# Altium integrated library Chip LED.IntLib: 106 symbols (part 1 of 2)
Pins are listed as number, name and electrical type; pins without a type are passive.

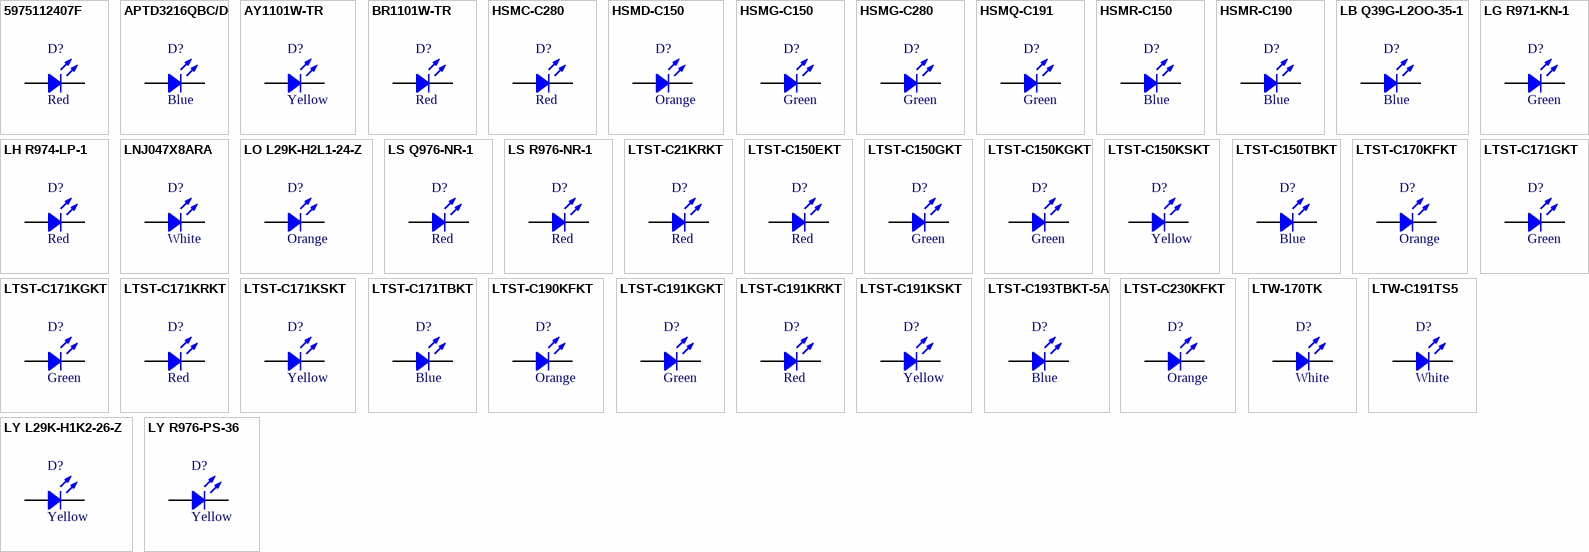
[diagram p0: symbols 5975112407F to LY R976-PS-36]

## 5975112407F
designator D?, comment Red
LED RED DIFFUSED 0603 SMD; Part Number: 5975112407F; Manufacturer: Dialight; Value: Green; Type: Surface Mount; Millicandela: 11.7mcd; Voltage Forward: 1.7V; Current (Test): 20mA; Viewing Angle: 152; PartId: 7057; Supplier 1: Digi-Key; Supplier Part Number 1: 350-2436-2-ND; ComponentLink1Description: Datasheet; ComponentLink1URL: http://www.dialight.com/Assets/Drawings/2D_Drawings_DrawingDetailedSpec/C16413.pdf; ComponentLink2Description: Digi-Key Listing; ComponentLink2URL: http://www.digikey.ca/product-detail/en/5975112407F/350-2436-2-ND/2432587; Price: 0.3092; Device Package: 0603 (1608 Metric); Colour: Red; Lens Transparency: Diffused
footprint LED 0603/1608 RED
pins: 1, 2

## APTD3216QBC/D
designator D?, comment Blue
LED BLUE CLEAR 1206 SMD; Part Number: APTD3216QBC/D; Manufacturer: Kingbright; Value: Green; Type: Surface Mount; Millicandela: 700mcd; Voltage Forward: 3.3V; Current (Test): 20mA; Viewing Angle: 35; PartId: 7110; Supplier 1: Digi-Key; Supplier Part Number 1: 754-1442-2-ND; ComponentLink1Description: Datasheet; ComponentLink1URL: http://www.kingbrightusa.com/images/catalog/SPEC/APTD3216QBC-D.pdf; ComponentLink2Description: Digi-Key Listing; ComponentLink2URL: http://www.digikey.ca/product-detail/en/APTD3216QBC%2FD/754-1442-2-ND/2163705; Price: 0.2248; Device Package: 1206 (3216 Metric); Colour: Blue; Lens Transparency: Clear
footprint LED 1206/3216 BLUE
pins: 1, 2

## AY1101W-TR
designator D?, comment Yellow
LED YELLOW CLEAR 1206 SMD; Part Number: AY1101W-TR; Manufacturer: Stanley Electric Co; Value: Green; Type: Surface Mount; Millicandela: 3.2mcd; Voltage Forward: 2.2V; Current (Test): 20mA; Viewing Angle: 140, 145; PartId: 7090; Supplier 1: Digi-Key; Supplier Part Number 1: 404-1044-2-ND; ComponentLink1Description: Datasheet; ComponentLink1URL: http://media.digikey.com/pdf/Data%20Sheets/Stanley%20Electric%20PDFs/1101W_Series.pdf; ComponentLink2Description: Digi-Key Listing; ComponentLink2URL: http://www.digikey.ca/product-detail/en/AY1101W-TR/404-1044-2-ND/428700; Price: 0.1538; Device Package: 1206 (3016 Metric); Colour: Yellow; Lens Transparency: Clear
footprint LED 1206/3216 YELLOW
pins: 1, 2

## BR1101W-TR
designator D?, comment Red
LED RED CLEAR 1206 SMD; Part Number: BR1101W-TR; Manufacturer: Stanley Electric Co; Value: Green; Type: Surface Mount; Millicandela: 12.8mcd; Voltage Forward: 1.7V; Current (Test): 20mA; Viewing Angle: 152, 141; PartId: 7089; Supplier 1: Digi-Key; Supplier Part Number 1: 404-1042-2-ND; ComponentLink1Description: Datasheet; ComponentLink1URL: http://media.digikey.com/pdf/Data%20Sheets/Stanley%20Electric%20PDFs/1101W_Series.pdf; ComponentLink2Description: Digi-Key Listing; ComponentLink2URL: http://www.digikey.ca/product-detail/en/BR1101W-TR/404-1042-2-ND/428693; Price: 0.1438; Device Package: 1206 (3016 Metric); Colour: Red; Lens Transparency: Clear
footprint LED 1206/3216 RED
pins: 1, 2

## HSMC-C280
designator D?, comment Red
LED RED DIFFUSED 0402 SMD; Part Number: HSMC-C280; Manufacturer: Avago Technologies US Inc.; Value: Green; Type: Surface Mount; Millicandela: 90mcd; Voltage Forward: 1.9V; Current (Test): 20mA; Viewing Angle: 130; PartId: 7071; Supplier 1: Digi-Key; Supplier Part Number 1: 516-3060-2-ND; ComponentLink1Description: Datasheet; ComponentLink1URL: http://www.avagotech.com/docs/AV02-0602EN; ComponentLink2Description: Digi-Key Listing; ComponentLink2URL: http://www.digikey.ca/product-detail/en/HSMC-C280/516-3060-2-ND/1235142; Price: 0.1893; Device Package: 0402 (1005 Metric); Colour: Red; Lens Transparency: Diffused
footprint LED 0402/1005 RED
pins: 1, 2

## HSMD-C150
designator D?, comment Orange
LED ORANGE DIFFUSED 1206 SMD; Part Number: HSMD-C150; Manufacturer: Avago Technologies US Inc.; Value: Green; Type: Surface Mount; Millicandela: 8mcd; Voltage Forward: 2.2V; Current (Test): 20mA; Viewing Angle: 170; PartId: 7094; Supplier 1: Digi-Key; Supplier Part Number 1: 516-1441-2-ND; ComponentLink1Description: Datasheet; ComponentLink1URL: http://media.digikey.com/pdf/Data%20Sheets/Avago%20PDFs/HSMz-Czzz.pdf; ComponentLink2Description: Digi-Key Listing; ComponentLink2URL: http://www.digikey.ca/product-detail/en/HSMD-C150/516-1441-2-ND/637702; Price: 0.1147; Device Package: 1206 (3216 Metric); Colour: Orange; Lens Transparency: Diffused
footprint LED 1206/3216 YELLOW
pins: 1, 2

## HSMG-C150
designator D?, comment Green
LED GREEN DIFFUSED 1206 SMD; Part Number: HSMG-C150; Manufacturer: Avago Technologies US Inc.; Type: Surface Mount; Millicandela: 15mcd; Voltage Forward: 2.2V; Current (Test): 20mA; Viewing Angle: 170; Value: Green; PartId: 7097; Supplier 1: Digi-Key; Supplier Part Number 1: 516-1443-2-ND; ComponentLink1Description: Datasheet; ComponentLink1URL: http://media.digikey.com/pdf/Data%20Sheets/Avago%20PDFs/HSMz-Czzz.pdf; ComponentLink2Description: Digi-Key Listing; ComponentLink2URL: http://www.digikey.ca/product-detail/en/HSMG-C150/516-1443-2-ND/637704; Price: 0.1147; Device Package: 1206 (3216 Metric); Colour: Green; Lens Transparency: Diffused
footprint LED 1206/3216 GREEN
pins: 1, 2

## HSMG-C280
designator D?, comment Green
LED GREEN DIFFUSED 0402 SMD; Part Number: HSMG-C280; Manufacturer: Avago Technologies US Inc.; Type: Surface Mount; Millicandela: 15mcd; Voltage Forward: 2.2V; Current (Test): 20mA; Viewing Angle: 130; Value: Green; PartId: 7070; Supplier 1: Digi-Key; Supplier Part Number 1: 516-3066-2-ND; ComponentLink1Description: Datasheet; ComponentLink1URL: http://www.avagotech.com/docs/AV02-0602EN; ComponentLink2Description: Digi-Key Listing; ComponentLink2URL: http://www.digikey.ca/product-detail/en/HSMG-C280/516-3066-2-ND/1235358; Price: 0.1147; Device Package: 0402 (1005 Metric); Colour: Green; Lens Transparency: Diffused
footprint LED 0402/1005 GREEN
pins: 1, 2

## HSMQ-C191
designator D?, comment Green
LED GREEN DIFFUSED 0603 SMD; Part Number: HSMQ-C191; Manufacturer: Avago Technologies US Inc.; Type: Surface Mount; Millicandela: 145mcd; Voltage Forward: 3.4V; Current (Test): 20mA; Viewing Angle: 140; Value: Green; PartId: 7059; Supplier 1: Digi-Key; Supplier Part Number 1: 516-1807-2-ND; ComponentLink1Description: Datasheet; ComponentLink1URL: http://www.avagotech.com/docs/AV02-0977EN; ComponentLink2Description: Digi-Key Listing; ComponentLink2URL: http://www.digikey.ca/product-detail/en/HSMQ-C191/516-1807-2-ND/1012398; Price: 0.4769; Device Package: 0603 (1608 Metric); Colour: Green; Lens Transparency: Diffused
footprint LED 0603/1608 GREEN
pins: 1, 2

## HSMR-C150
designator D?, comment Blue
LED BLUE DIFFUSED 1206 SMD; Part Number: HSMR-C150; Manufacturer: Avago Technologies US Inc.; Value: Green; Type: Surface Mount; Millicandela: 55mcd; Voltage Forward: 3.4V; Current (Test): 20mA; Viewing Angle: 155; PartId: 7106; Supplier 1: Digi-Key; Supplier Part Number 1: 516-1436-2-ND; ComponentLink1Description: Datasheet; ComponentLink1URL: http://www.avagotech.com/docs/AV02-0977EN; ComponentLink2Description: Digi-Key Listing; ComponentLink2URL: http://www.digikey.ca/product-detail/en/HSMR-C150/516-1436-2-ND/637697; Price: 0.3614; Device Package: 1206 (3216 Metric); Colour: Blue; Lens Transparency: Diffused
footprint LED 1206/3216 BLUE
pins: 1, 2

## HSMR-C190
designator D?, comment Blue
LED BLUE DIFFUSED 0603 SMD; Part Number: HSMR-C190; Manufacturer: Avago Technologies US Inc.; Value: Green; Type: Surface Mount; Millicandela: 55mcd; Voltage Forward: 3.4V; Current (Test): 20mA; Viewing Angle: 155; PartId: 7058; Supplier 1: Digi-Key; Supplier Part Number 1: 516-2502-2-ND; ComponentLink1Description: Datasheet; ComponentLink1URL: http://www.avagotech.com/docs/AV02-0977EN; ComponentLink2Description: Digi-Key Listing; ComponentLink2URL: http://www.digikey.ca/product-detail/en/HSMR-C190/516-2502-2-ND/1235444; Price: 0.3614; Device Package: 0603 (1608 Metric); Colour: Blue; Lens Transparency: Diffused
footprint LED 0603/1608 BLUE
pins: 1, 2

## LB Q39G-L2OO-35-1
designator D?, comment Blue
LED BLUE DIFFUSED 0603 SMD; Part Number: LB Q39G-L2OO-35-1; Manufacturer: OSRAM Opto Semiconductors Inc.; Value: Green; Type: Surface Mount; Millicandela: 29.5mcd; Voltage Forward: 2.85V; Current (Test): 5mA; Viewing Angle: 155, 135; PartId: 7064; Supplier 1: Digi-Key; Supplier Part Number 1: 475-2816-2-ND; ComponentLink1Description: Datasheet; ComponentLink1URL: http://media.digikey.com/pdf/Data%20Sheets/Osram%20PDFs/LB_LT%20Q39G.pdf; ComponentLink2Description: Digi-Key Listing; ComponentLink2URL: http://www.digikey.ca/product-detail/en/LB%20Q39G-L2OO-35-1/475-2816-2-ND/2176322; Price: 0.1024; Device Package: 0603 (1608 Metric); Colour: Blue; Lens Transparency: Diffused
footprint LED 0603/1608 BLUE
pins: 1, 2

## LG R971-KN-1
designator D?, comment Green
LED GREEN DIFFUSED 0805 SMD; Part Number: LG R971-KN-1; Manufacturer: OSRAM Opto Semiconductors Inc.; Type: Surface Mount; Millicandela: 26.05mcd; Voltage Forward: 2.2V; Current (Test): 20mA; Viewing Angle: 160; Value: Green; PartId: 7076; Supplier 1: Digi-Key; Supplier Part Number 1: 475-1410-2-ND; ComponentLink1Description: Datasheet; ComponentLink1URL: http://www.osram-os.com/Graphics/XPic9/00078860_0.pdf; ComponentLink2Description: Digi-Key Listing; ComponentLink2URL: http://www.digikey.ca/product-detail/en/LG%20R971-KN-1/475-1410-2-ND/1227925; Price: 0.0621; Device Package: 0805 (2012 Metric); Colour: Green; Lens Transparency: Diffused
footprint LED 0805/2012 GREEN
pins: 1, 2

## LH R974-LP-1
designator D?, comment Red
LED RED DIFFUSED 0805 SMD; Part Number: LH R974-LP-1; Manufacturer: OSRAM Opto Semiconductors Inc.; Value: Green; Type: Surface Mount; Millicandela: 41mcd; Voltage Forward: 1.8V; Current (Test): 20mA; Viewing Angle: 160; PartId: 7077; Supplier 1: Digi-Key; Supplier Part Number 1: 475-1415-2-ND; ComponentLink1Description: Datasheet; ComponentLink1URL: http://www.osram-os.com/Graphics/XPic8/00078869_0.pdf; ComponentLink2Description: Digi-Key Listing; ComponentLink2URL: http://www.digikey.ca/product-detail/en/LH%20R974-LP-1/475-1415-2-ND/1227932; Price: 0.0621; Device Package: 0805 (2012 Metric); Colour: Red; Lens Transparency: Diffused
footprint LED 0805/2012 RED
pins: 1, 2

## LNJ047X8ARA
designator D?, comment White
LED WHITE 0402 SMD; Part Number: LNJ047X8ARA; Manufacturer: Panasonic Electronic Components; Value: Green; Type: Surface Mount; Millicandela: 50mcd; Voltage Forward: 2.9V; Current (Test): 5mA; PartId: 7074; Supplier 1: Digi-Key; Supplier Part Number 1: LNJ047X8ARATR-ND; ComponentLink1Description: Datasheet; ComponentLink1URL: http://www.semicon.panasonic.co.jp/ds4/LNJ047X8ARA_E.pdf; ComponentLink2Description: Digi-Key Listing; ComponentLink2URL: http://www.digikey.ca/product-detail/en/LNJ047X8ARA/LNJ047X8ARATR-ND/2529235; Price: 0.184; Device Package: 0402 (1005 Metric); Colour: White; Lens Transparency: -; Viewing Angle: -
footprint LED 0402/1005
pins: 1, 2

## LO L29K-H2L1-24-Z
designator D?, comment Orange
LED ORANGE DIFFUSED 0603 SMD; Part Number: LO L29K-H2L1-24-Z; Manufacturer: OSRAM Opto Semiconductors Inc.; Value: Green; Type: Surface Mount; Millicandela: 8.78mcd; Voltage Forward: 1.8V; Current (Test): 2mA; Viewing Angle: 160; PartId: 7061; Supplier 1: Digi-Key; Supplier Part Number 1: 475-2481-2-ND; ComponentLink1Description: Datasheet; ComponentLink1URL: http://www.osram-os.com/Graphics/XPic0/00077105_0.pdf; ComponentLink2Description: Digi-Key Listing; ComponentLink2URL: http://www.digikey.ca/product-detail/en/LO%20L29K-H2L1-24-Z/475-2481-2-ND/1227948; Price: 0.0967; Device Package: 0603 (1608 Metric); Colour: Orange; Lens Transparency: Diffused
footprint LED 0603/1608 YELLOW
pins: 1, 2

## LS Q976-NR-1
designator D?, comment Red
LED RED DIFFUSED 0603 SMD; Part Number: LS Q976-NR-1; Manufacturer: OSRAM Opto Semiconductors Inc.; Value: Green; Type: Surface Mount; Millicandela: 104mcd; Voltage Forward: 2V; Current (Test): 20mA; Viewing Angle: 160; PartId: 7063; Supplier 1: Digi-Key; Supplier Part Number 1: 475-2512-2-ND; ComponentLink1Description: Datasheet; ComponentLink1URL: http://www.osram-os.com/Graphics/XPic9/00128792_0.pdf; ComponentLink2Description: Digi-Key Listing; ComponentLink2URL: http://www.digikey.ca/product-detail/en/LS%20Q976-NR-1/475-2512-2-ND/1227986; Price: 0.0654; Device Package: 0603 (1608 Metric); Colour: Red; Lens Transparency: Diffused
footprint LED 0603/1608 RED
pins: 1, 2

## LS R976-NR-1
designator D?, comment Red
LED RED DIFFUSED 0805 SMD; Part Number: LS R976-NR-1; Manufacturer: OSRAM Opto Semiconductors Inc.; Value: Green; Type: Surface Mount; Millicandela: 104mcd; Voltage Forward: 2V; Current (Test): 20mA; Viewing Angle: 160; PartId: 7081; Supplier 1: Digi-Key; Supplier Part Number 1: 475-1278-2-ND; ComponentLink1Description: Datasheet; ComponentLink1URL: http://www.osram-os.com/Graphics/XPic8/00078896_0.pdf; ComponentLink2Description: Digi-Key Listing; ComponentLink2URL: http://www.digikey.ca/product-detail/en/LS%20R976-NR-1/475-1278-2-ND/1227987; Price: 0.0654; Device Package: 0805 (2012 Metric); Colour: Red; Lens Transparency: Diffused
footprint LED 0805/2012 RED
pins: 1, 2

## LTST-C21KRKT
designator D?, comment Red
LED RED CLEAR 1206 SMD; Part Number: LTST-C21KRKT; Manufacturer: Lite-On Inc.; Value: Green; Type: Surface Mount; Millicandela: 100mcd; Voltage Forward: 2V; Current (Test): 20mA; Viewing Angle: 70; PartId: 7099; Supplier 1: Digi-Key; Supplier Part Number 1: 160-2024-2-ND; ComponentLink1Description: Datasheet; ComponentLink1URL: http://optoelectronics.liteon.com/upload/download/DS22-2006-020/S_110_LTST-C21KRKT.pdf; ComponentLink2Description: Digi-Key Listing; ComponentLink2URL: http://www.digikey.ca/product-detail/en/LTST-C21KRKT/160-2024-2-ND/3198713; Price: 0.0864; Device Package: 1206 (3216 Metric) REV; Colour: Red; Lens Transparency: Clear
footprint LITEON LTST-C21KRKT
pins: 1, 2

## LTST-C150EKT
designator D?, comment Red
LED RED CLEAR 1206 SMD; Part Number: LTST-C150EKT; Manufacturer: Lite-On Inc.; Value: Green; Type: Surface Mount; Millicandela: 6mcd; Voltage Forward: 2V; Current (Test): 10mA; Viewing Angle: 130; PartId: 7098; Supplier 1: Digi-Key; Supplier Part Number 1: 160-1168-2-ND; ComponentLink1Description: Datasheet; ComponentLink1URL: http://media.digikey.com/pdf/Data%20Sheets/Lite-On%20PDFs/LTST-C150EKT.pdf; ComponentLink2Description: Digi-Key Listing; ComponentLink2URL: http://www.digikey.ca/product-detail/en/LTST-C150EKT/160-1168-2-ND/269215; Price: 0.0745; Device Package: 1206 (3216 Metric); Colour: Red; Lens Transparency: Clear
footprint LED 1206/3216 RED
pins: 1, 2

## LTST-C150GKT
designator D?, comment Green
LED GREEN CLEAR 1206 SMD; Part Number: LTST-C150GKT; Manufacturer: Lite-On Inc.; Type: Surface Mount; Millicandela: 6mcd; Voltage Forward: 2.1V; Current (Test): 10mA; Viewing Angle: 130; Value: Green; PartId: 7095; Supplier 1: Digi-Key; Supplier Part Number 1: 160-1169-2-ND; ComponentLink1Description: Datasheet; ComponentLink1URL: http://optoelectronics.liteon.com/upload/download/DS-22-98-0004/S_110_LTST-C150GKT.pdf; ComponentLink2Description: Digi-Key Listing; ComponentLink2URL: http://www.digikey.ca/product-detail/en/LTST-C150GKT/160-1169-2-ND/269216; Price: 0.0715; Device Package: 1206 (3216 Metric); Colour: Green; Lens Transparency: Clear
footprint LED 1206/3216 GREEN
pins: 1, 2

## LTST-C150KGKT
designator D?, comment Green
LED GREEN CLEAR 1206 SMD; Part Number: LTST-C150KGKT; Manufacturer: Lite-On Inc.; Type: Surface Mount; Millicandela: 44.5mcd; Voltage Forward: 2V; Current (Test): 20mA; Viewing Angle: 130; Value: Green; PartId: 7096; Supplier 1: Digi-Key; Supplier Part Number 1: 160-1404-2-ND; ComponentLink1Description: Datasheet; ComponentLink1URL: http://optoelectronics.liteon.com/upload/download/DS22-2000-072/S_110_LTST-C150KGKT.pdf; ComponentLink2Description: Digi-Key Listing; ComponentLink2URL: http://www.digikey.ca/product-detail/en/LTST-C150KGKT/160-1404-2-ND/365085; Price: 0.0798; Device Package: 1206 (3216 Metric); Colour: Green; Lens Transparency: Clear
footprint LED 1206/3216 GREEN
pins: 1, 2

## LTST-C150KSKT
designator D?, comment Yellow
LED YELLOW CLEAR 1206 SMD; Part Number: LTST-C150KSKT; Manufacturer: Lite-On Inc.; Value: Green; Type: Surface Mount; Millicandela: 70mcd; Voltage Forward: 2.1V; Current (Test): 20mA; Viewing Angle: 130; PartId: 7092; Supplier 1: Digi-Key; Supplier Part Number 1: 160-1406-2-ND; ComponentLink1Description: Datasheet; ComponentLink1URL: http://optoelectronics.liteon.com/upload/download/DS-22-99-0187/S_110_LTST-C150KSKT.pdf; ComponentLink2Description: Digi-Key Listing; ComponentLink2URL: http://www.digikey.ca/product-detail/en/LTST-C150KSKT/160-1406-2-ND/386763; Price: 0.0798; Device Package: 1206 (3216 Metric); Colour: Yellow; Lens Transparency: Clear
footprint LED 1206/3216 YELLOW
pins: 1, 2

## LTST-C150TBKT
designator D?, comment Blue
LED BLUE CLEAR 1206 SMD; Part Number: LTST-C150TBKT; Manufacturer: Lite-On Inc.; Value: Green; Type: Surface Mount; Millicandela: 104mcd; Voltage Forward: 3.3V; Current (Test): 20mA; Viewing Angle: 130; PartId: 7103; Supplier 1: Digi-Key; Supplier Part Number 1: 160-1643-2-ND; ComponentLink1Description: Datasheet; ComponentLink1URL: http://optoelectronics.liteon.com/upload/download/DS22-2000-026/S_110_LTST-C150TBKT(0630).pdf; ComponentLink2Description: Digi-Key Listing; ComponentLink2URL: http://www.digikey.ca/product-detail/en/LTST-C150TBKT/160-1643-2-ND/388526; Price: 0.1063; Device Package: 1206 (3216 Metric); Colour: Blue; Lens Transparency: Clear
footprint LED 1206/3216 BLUE
pins: 1, 2

## LTST-C170KFKT
designator D?, comment Orange
LED ORANGE CLEAR 0805 SMD; Part Number: LTST-C170KFKT; Manufacturer: Lite-On Inc.; Value: Green; Type: Surface Mount; Millicandela: 90mcd; Voltage Forward: 2V; Current (Test): 20mA; Viewing Angle: 130; PartId: 7079; Supplier 1: Digi-Key; Supplier Part Number 1: 160-1413-2-ND; ComponentLink1Description: Datasheet; ComponentLink1URL: http://optoelectronics.liteon.com/upload/download/DS-22-99-0185/S_110_LTST-C170KFKT.pdf; ComponentLink2Description: Digi-Key Listing; ComponentLink2URL: http://www.digikey.ca/product-detail/en/LTST-C170KFKT/160-1413-2-ND/386775; Price: 0.0638; Device Package: 0805 (2012 Metric); Colour: Orange; Lens Transparency: Clear
footprint LED 0805/2012 YELLOW
pins: 1, 2

## LTST-C171GKT
designator D?, comment Green
LED GREEN CLEAR 0805 SMD; Part Number: LTST-C171GKT; Manufacturer: Lite-On Inc.; Type: Surface Mount; Millicandela: 12mcd; Voltage Forward: 2.1V; Current (Test): 20mA; Viewing Angle: 130; Value: Green; PartId: 7075; Supplier 1: Digi-Key; Supplier Part Number 1: 160-1423-2-ND; ComponentLink1Description: Datasheet; ComponentLink1URL: http://media.digikey.com/pdf/Data%20Sheets/Lite-On%20PDFs/LTST-C171GKT.pdf; ComponentLink2Description: Digi-Key Listing; ComponentLink2URL: http://www.digikey.ca/product-detail/en/LTST-C171GKT/160-1423-2-ND/386793; Price: 0.0599; Device Package: 0805 (2012 Metric); Colour: Green; Lens Transparency: Clear
footprint LED 0805/2012 GREEN
pins: 1, 2

## LTST-C171KGKT
designator D?, comment Green
LED GREEN CLEAR 0805 SMD; Part Number: LTST-C171KGKT; Manufacturer: Lite-On Inc.; Type: Surface Mount; Millicandela: 35mcd; Voltage Forward: 2V; Current (Test): 20mA; Viewing Angle: 130; Value: Green; PartId: 7080; Supplier 1: Digi-Key; Supplier Part Number 1: 160-1426-2-ND; ComponentLink1Description: Datasheet; ComponentLink1URL: http://optoelectronics.liteon.com/upload/download/DS22-2000-118/S_110_LTST-C171KGKT.pdf; ComponentLink2Description: Digi-Key Listing; ComponentLink2URL: http://www.digikey.ca/product-detail/en/LTST-C171KGKT/160-1426-2-ND/386799; Price: 0.0638; Device Package: 0805 (2012 Metric); Colour: Green; Lens Transparency: Clear
footprint LED 0805/2012 GREEN
pins: 1, 2

## LTST-C171KRKT
designator D?, comment Red
LED RED CLEAR 0805 SMD; Part Number: LTST-C171KRKT; Manufacturer: Lite-On Inc.; Value: Green; Type: Surface Mount; Millicandela: 54mcd; Voltage Forward: 2V; Current (Test): 20mA; Viewing Angle: 130; PartId: 7078; Supplier 1: Digi-Key; Supplier Part Number 1: 160-1427-2-ND; ComponentLink1Description: Datasheet; ComponentLink1URL: http://optoelectronics.liteon.com/upload/download/DS22-2000-109/S_110_LTST-C171KRKT.pdf; ComponentLink2Description: Digi-Key Listing; ComponentLink2URL: http://www.digikey.ca/product-detail/en/LTST-C171KRKT/160-1427-2-ND/386801; Price: 0.0638; Device Package: 0805 (2012 Metric); Colour: Red; Lens Transparency: Clear
footprint LED 0805/2012 RED
pins: 1, 2

## LTST-C171KSKT
designator D?, comment Yellow
LED YELLOW CLEAR 0805 SMD; Part Number: LTST-C171KSKT; Manufacturer: Lite-On Inc.; Value: Green; Type: Surface Mount; Millicandela: 50mcd; Voltage Forward: 2V; Current (Test): 20mA; Viewing Angle: 130; PartId: 7083; Supplier 1: Digi-Key; Supplier Part Number 1: 160-1428-2-ND; ComponentLink1Description: Datasheet; ComponentLink1URL: http://optoelectronics.liteon.com/upload/download/DS22-2000-110/S_110_LTST-C171KSKT.pdf; ComponentLink2Description: Digi-Key Listing; ComponentLink2URL: http://www.digikey.ca/product-detail/en/LTST-C171KSKT/160-1428-2-ND/386803; Price: 0.0679; Device Package: 0805 (2012 Metric); Colour: Yellow; Lens Transparency: Clear
footprint LED 0805/2012 YELLOW
pins: 1, 2

## LTST-C171TBKT
designator D?, comment Blue
LED BLUE CLEAR 0805 SMD; Part Number: LTST-C171TBKT; Manufacturer: Lite-On Inc.; Value: Green; Type: Surface Mount; Millicandela: 104mcd; Voltage Forward: 3.3V; Current (Test): 20mA; Viewing Angle: 130; PartId: 7084; Supplier 1: Digi-Key; Supplier Part Number 1: 160-1645-2-ND; ComponentLink1Description: Datasheet; ComponentLink1URL: http://optoelectronics.liteon.com/upload/download/DS22-2000-233/S_110_LTST-C171TBKT(0630).pdf; ComponentLink2Description: Digi-Key Listing; ComponentLink2URL: http://www.digikey.ca/product-detail/en/LTST-C171TBKT/160-1645-2-ND/388528; Price: 0.0939; Device Package: 0805 (2012 Metric); Colour: Blue; Lens Transparency: Clear
footprint LED 0805/2012 BLUE
pins: 1, 2

## LTST-C190KFKT
designator D?, comment Orange
LED ORANGE CLEAR 0603 SMD; Part Number: LTST-C190KFKT; Manufacturer: Lite-On Inc.; Value: Green; Type: Surface Mount; Millicandela: 90mcd; Voltage Forward: 2V; Current (Test): 20mA; Viewing Angle: 130; PartId: 7052; Supplier 1: Digi-Key; Supplier Part Number 1: 160-1434-2-ND; ComponentLink1Description: Datasheet; ComponentLink1URL: http://optoelectronics.liteon.com/upload/download/DS-22-99-0186/S_110_LTST-C190KFKT.pdf; ComponentLink2Description: Digi-Key Listing; ComponentLink2URL: http://www.digikey.ca/product-detail/en/LTST-C190KFKT/160-1434-2-ND/386813; Price: 0.0519; Device Package: 0603 (1608 Metric); Colour: Orange; Lens Transparency: Clear
footprint LED 0603/1608 YELLOW
pins: 1, 2

## LTST-C191KGKT
designator D?, comment Green
LED GREEN CLEAR 0603 SMD; Part Number: LTST-C191KGKT; Manufacturer: Lite-On Inc.; Type: Surface Mount; Millicandela: 35mcd; Voltage Forward: 2V; Current (Test): 20mA; Viewing Angle: 130; Value: Green; PartId: 7051; Supplier 1: Digi-Key; Supplier Part Number 1: 160-1446-2-ND; ComponentLink1Description: Datasheet; ComponentLink1URL: http://optoelectronics.liteon.com/upload/download/DS22-2000-228/S_110_LTST-C191KGKT.pdf; ComponentLink2Description: Digi-Key Listing; ComponentLink2URL: http://www.digikey.ca/product-detail/en/LTST-C191KGKT/160-1446-2-ND/386835; Price: 0.0521; Device Package: 0603 (1608 Metric); Colour: Green; Lens Transparency: Clear
footprint LED 0603/1608 GREEN
pins: 1, 2

## LTST-C191KRKT
designator D?, comment Red
LED RED CLEAR 0603 SMD; Part Number: LTST-C191KRKT; Manufacturer: Lite-On Inc.; Value: Green; Millicandela: 54mcd; Voltage Forward: 2V; Current (Test): 20mA; Viewing Angle: 130; PartId: 7050; Supplier 1: Digi-Key; Supplier Part Number 1: 160-1447-2-ND; ComponentLink1Description: Datasheet; ComponentLink1URL: http://optoelectronics.liteon.com/upload/download/DS22-2000-223/S_110_LTST-C191KRKT.pdf; ComponentLink2Description: Digi-Key Listing; ComponentLink2URL: http://www.digikey.ca/product-detail/en/LTST-C191KRKT/160-1447-2-ND/386837; Price: 0.0521; Device Package: 0603 (1608 Metric); Colour: Red; Lens Transparency: Clear
footprint LED 0603/1608 RED
pins: 1, 2

## LTST-C191KSKT
designator D?, comment Yellow
LED YELLOW CLEAR 0603 SMD; Part Number: LTST-C191KSKT; Manufacturer: Lite-On Inc.; Value: Green; Type: Surface Mount; Millicandela: 104mcd; Voltage Forward: 2.1V; Current (Test): 20mA; Viewing Angle: 130; PartId: 7053; Supplier 1: Digi-Key; Supplier Part Number 1: 160-1448-2-ND; ComponentLink1Description: Datasheet; ComponentLink1URL: http://optoelectronics.liteon.com/upload/download/DS22-2000-224/S_110_LTST-C191KSKT.pdf; ComponentLink2Description: Digi-Key Listing; ComponentLink2URL: http://www.digikey.ca/product-detail/en/LTST-C191KSKT/160-1448-2-ND/386839; Price: 0.0555; Device Package: 0603 (1608 Metric); Colour: Yellow; Lens Transparency: Clear
footprint LED 0603/1608 YELLOW
pins: 1, 2

## LTST-C193TBKT-5A
designator D?, comment Blue
LED BLUE CLEAR 0603 SMD; Part Number: LTST-C193TBKT-5A; Manufacturer: Lite-On Inc.; Value: Green; Type: Surface Mount; Millicandela: 15mcd; Voltage Forward: 2.8V; Current (Test): 5mA; Viewing Angle: 130; PartId: 7054; Supplier 1: Digi-Key; Supplier Part Number 1: 160-1827-2-ND; ComponentLink1Description: Datasheet; ComponentLink1URL: http://optoelectronics.liteon.com/upload/download/DS22-2004-060/P_100_LTST-C193TBKT-5A.pdf; ComponentLink2Description: Digi-Key Listing; ComponentLink2URL: http://www.digikey.ca/product-detail/en/LTST-C193TBKT-5A/160-1827-2-ND/2053656; Price: 0.0875; Device Package: 0603 (1608 Metric); Colour: Blue; Lens Transparency: Clear
footprint LED 0603/1608 BLUE
pins: 1, 2

## LTST-C230KFKT
designator D?, comment Orange
LED ORANGE CLEAR 1206 SMD; Part Number: LTST-C230KFKT; Manufacturer: Lite-On Inc.; Value: Green; Type: Surface Mount; Millicandela: 90mcd; Voltage Forward: 2V; Current (Test): 20mA; Viewing Angle: 130; PartId: 7091; Supplier 1: Digi-Key; Supplier Part Number 1: 160-2025-2-ND; ComponentLink1Description: Datasheet; ComponentLink1URL: http://optoelectronics.liteon.com/upload/download/DS22-2000-252/S_110_LTST-C230KFKT.pdf; ComponentLink2Description: Digi-Key Listing; ComponentLink2URL: http://www.digikey.ca/product-detail/en/LTST-C230KFKT/160-2025-2-ND/2764957; Price: 0.0691; Device Package: 1206 (3216 Metric); Colour: Orange; Lens Transparency: Clear
footprint LITEON LTST-C230KFKT
pins: 1, 2

## LTW-170TK
designator D?, comment White
LED WHITE 0805 SMD; Part Number: LTW-170TK; Manufacturer: Lite-On Inc.; Value: Green; Type: Surface Mount; Millicandela: 281mcd; Voltage Forward: 3.3V; Current (Test): 20mA; Viewing Angle: 130; PartId: 7085; Supplier 1: Digi-Key; Supplier Part Number 1: 160-1738-2-ND; ComponentLink1Description: Datasheet; ComponentLink1URL: http://optoelectronics.liteon.com/upload/download/DS22-2004-078/S_110_LTW-170TK.pdf; ComponentLink2Description: Digi-Key Listing; ComponentLink2URL: http://www.digikey.ca/product-detail/en/LTW-170TK/160-1738-2-ND/758704; Price: 0.1966; Device Package: 0805 (2012 Metric); Colour: White; Lens Transparency: -
footprint LED 0805/2012
pins: 1, 2

## LTW-C191TS5
designator D?, comment White
LED WHITE 0603 SMD; Part Number: LTW-C191TS5; Manufacturer: Lite-On Inc.; Value: Green; Type: Surface Mount; Millicandela: 112.5mcd; Voltage Forward: 2.93V; Current (Test): 5mA; Viewing Angle: 130; PartId: 7055; Supplier 1: Digi-Key; Supplier Part Number 1: 160-1724-2-ND; ComponentLink1Description: Datasheet; ComponentLink1URL: http://optoelectronics.liteon.com/upload/download/DS22-2004-201/S_110_LTW-C191TS5.pdf; ComponentLink2Description: Digi-Key Listing; ComponentLink2URL: http://www.digikey.ca/product-detail/en/LTW-C191TS5/160-1724-2-ND/726332; Price: 0.1966; Device Package: 0603 (1608 Metric); Colour: White; Lens Transparency: -
footprint LED 0603/1608
pins: 1, 2

## LY L29K-H1K2-26-Z
designator D?, comment Yellow
LED YELLOW DIFFUSED 0603 SMD; Part Number: LY L29K-H1K2-26-Z; Manufacturer: OSRAM Opto Semiconductors Inc.; Value: Green; Type: Surface Mount; Millicandela: 7mcd; Voltage Forward: 1.8V; Current (Test): 2mA; Viewing Angle: 160; PartId: 7060; Supplier 1: Digi-Key; Supplier Part Number 1: 475-1196-2-ND; ComponentLink1Description: Datasheet; ComponentLink1URL: http://www.osram-os.com/Graphics/XPic1/00077106_0.pdf; ComponentLink2Description: Digi-Key Listing; ComponentLink2URL: http://www.digikey.ca/product-detail/en/LY%20L29K-H1K2-26-Z/475-1196-2-ND/810340; Price: 0.0967; Device Package: 0603 (1608 Metric); Colour: Yellow; Lens Transparency: Diffused
footprint LED 0603/1608 YELLOW
pins: 1, 2

## LY R976-PS-36
designator D?, comment Yellow
LED YELLOW DIFFUSED 0805 SMD; Part Number: LY R976-PS-36; Manufacturer: OSRAM Opto Semiconductors Inc.; Value: Green; Type: Surface Mount; Millicandela: 162.5mcd; Voltage Forward: 2V; Current (Test): 20mA; Viewing Angle: 160; PartId: 7082; Supplier 1: Digi-Key; Supplier Part Number 1: 475-2560-2-ND; ComponentLink1Description: Datasheet; ComponentLink1URL: http://www.osram-os.com/Graphics/XPic9/00078941_0.pdf; ComponentLink2Description: Digi-Key Listing; ComponentLink2URL: http://www.digikey.ca/product-detail/en/LY%20R976-PS-36/475-2560-2-ND/1228052; Price: 0.0654; Device Package: 0805 (2012 Metric); Colour: Yellow; Lens Transparency: Diffused
footprint LED 0805/2012 YELLOW
pins: 1, 2

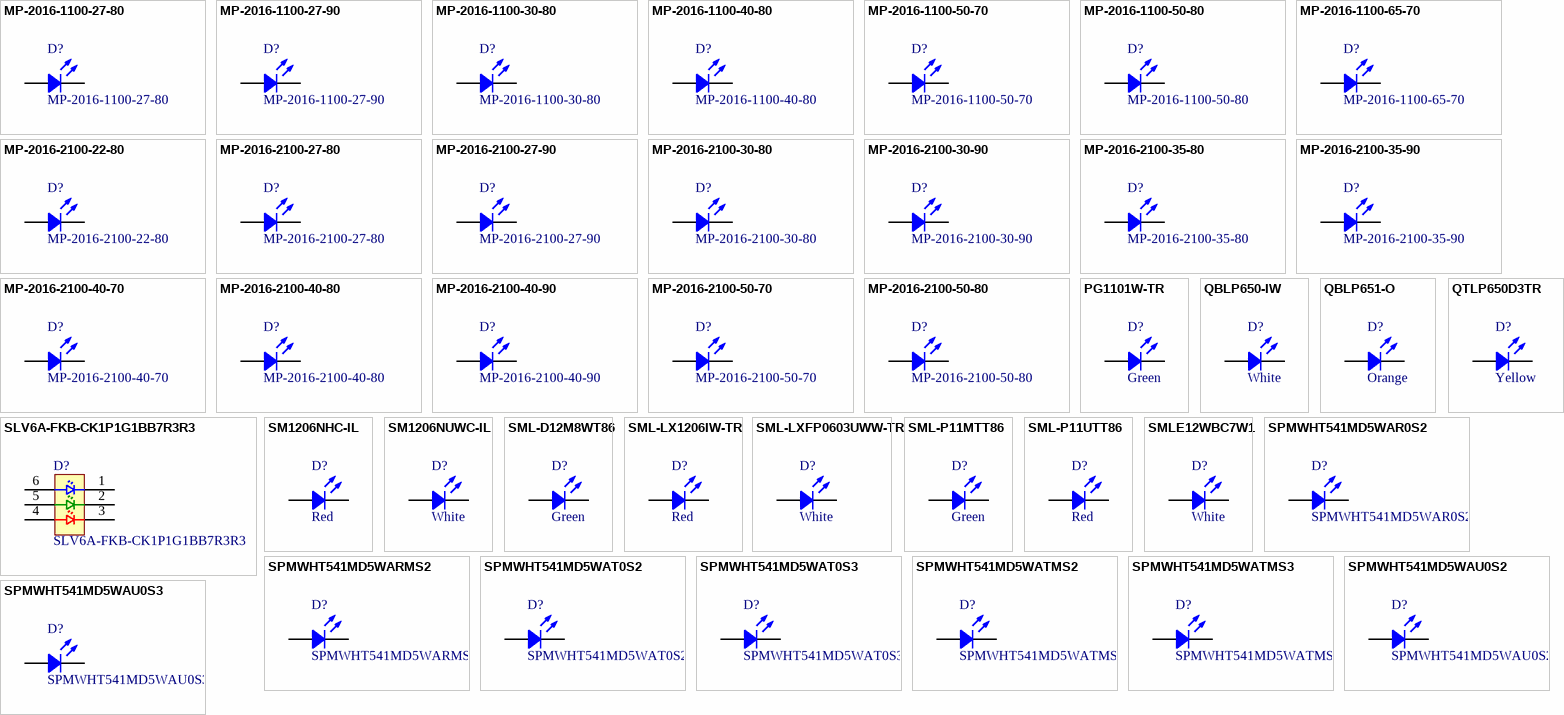
[diagram p1: symbols MP-2016-1100-27-80 to SPMWHT541MD5WAU0S3]

## MP-2016-1100-27-80
designator D?
LED XNOVA WARM WHITE 2700K 0806; Manufacturer: Luminus Devices Inc.; Value: Green; Colour: White, Warm; Voltage Forward: 3V; Current (Test): 60mA; Viewing Angle: 110; Part Number: MP-2016-1100-27-80; PartId: 10868; Supplier 1: Digi-Key; Supplier Part Number 1: 1214-1210-2-ND; ComponentLink1Description: Datasheet; ComponentLink1URL: http://www.luminus.com/products/PDS-002326%20Mid%20Power%202016%20Rev6.pdf; ComponentLink2Description: Digi-Key Listing; ComponentLink2URL: https://www.digikey.com/product-detail/en/luminus-devices-inc/MP-2016-1100-27-80/1214-1210-2-ND/4807629; Price: 0.042; Device Package: 0806 (2016 Metric)
footprint LUMINUS MP-2016
pins: 1, 2

## MP-2016-1100-27-90
designator D?
LED XNOVA WARM WHITE 2700K 0806; Manufacturer: Luminus Devices Inc.; Value: Green; Colour: White, Warm; Voltage Forward: 3V; Current (Test): 60mA; Viewing Angle: 110; Part Number: MP-2016-1100-27-90; PartId: 10871; Supplier 1: Digi-Key; Supplier Part Number 1: 1214-1293-2-ND; ComponentLink1Description: Datasheet; ComponentLink1URL: http://www.luminus.com/products/PDS-002326%20Mid%20Power%202016%20Rev6.pdf; ComponentLink2Description: Digi-Key Listing; ComponentLink2URL: https://www.digikey.com/product-detail/en/luminus-devices-inc/MP-2016-1100-27-90/1214-1293-2-ND/5041549; Price: 0.0448; Device Package: 0806 (2016 Metric)
footprint LUMINUS MP-2016
pins: 1, 2

## MP-2016-1100-30-80
designator D?
LED XNOVA WARM WHITE 3000K 0806; Manufacturer: Luminus Devices Inc.; Value: Green; Colour: White, Warm; Voltage Forward: 3V; Current (Test): 60mA; Viewing Angle: 110; Part Number: MP-2016-1100-30-80; PartId: 10865; Supplier 1: Digi-Key; Supplier Part Number 1: 1214-1211-2-ND; ComponentLink1Description: Datasheet; ComponentLink1URL: http://www.luminus.com/products/PDS-002326%20Mid%20Power%202016%20Rev6.pdf; ComponentLink2Description: Digi-Key Listing; ComponentLink2URL: https://www.digikey.com/product-detail/en/luminus-devices-inc/MP-2016-1100-30-80/1214-1211-2-ND/4807630; Price: 0.042; Device Package: 0806 (2016 Metric)
footprint LUMINUS MP-2016
pins: 1, 2

## MP-2016-1100-40-80
designator D?
LED XNOVA NEUTRAL WHT 4000K 0806; Manufacturer: Luminus Devices Inc.; Value: Green; Colour: White, Neutral; Voltage Forward: 3V; Current (Test): 60mA; Viewing Angle: 110; Part Number: MP-2016-1100-40-80; PartId: 10866; Supplier 1: Digi-Key; Supplier Part Number 1: 1214-1212-2-ND; ComponentLink1Description: Datasheet; ComponentLink1URL: http://www.luminus.com/products/PDS-002326%20Mid%20Power%202016%20Rev6.pdf; ComponentLink2Description: Digi-Key Listing; ComponentLink2URL: https://www.digikey.com/product-detail/en/luminus-devices-inc/MP-2016-1100-40-80/1214-1212-2-ND/4807631; Price: 0.042; Device Package: 0806 (2016 Metric)
footprint LUMINUS MP-2016
pins: 1, 2

## MP-2016-1100-50-70
designator D?
LED XNOVA COOL WHITE 5000K 0806; Manufacturer: Luminus Devices Inc.; Value: Green; Colour: White, Cool; Voltage Forward: 3V; Current (Test): 60mA; Viewing Angle: 110; Part Number: MP-2016-1100-50-70; PartId: 10867; Supplier 1: Digi-Key; Supplier Part Number 1: 1214-1209-2-ND; ComponentLink1Description: Datasheet; ComponentLink1URL: http://www.luminus.com/products/PDS-002326%20Mid%20Power%202016%20Rev6.pdf; ComponentLink2Description: Digi-Key Listing; ComponentLink2URL: https://www.digikey.com/product-detail/en/luminus-devices-inc/MP-2016-1100-50-70/1214-1209-2-ND/4807628; Price: 0.042; Device Package: 0806 (2016 Metric)
footprint LUMINUS MP-2016
pins: 1, 2

## MP-2016-1100-50-80
designator D?
LED XNOVA COOL WHITE 5000K 0806; Manufacturer: Luminus Devices Inc.; Value: Green; Colour: White, Cool; Voltage Forward: 3V; Current (Test): 60mA; Viewing Angle: 110; Part Number: MP-2016-1100-50-80; PartId: 10870; Supplier 1: Digi-Key; Supplier Part Number 1: 1214-1297-2-ND; ComponentLink1Description: Datasheet; ComponentLink1URL: http://www.luminus.com/products/PDS-002326%20Mid%20Power%202016%20Rev6.pdf; ComponentLink2Description: Digi-Key Listing; ComponentLink2URL: https://www.digikey.com/product-detail/en/luminus-devices-inc/MP-2016-1100-50-80/1214-1297-2-ND/5041553; Price: 0.042; Device Package: 0806 (2016 Metric)
footprint LUMINUS MP-2016
pins: 1, 2

## MP-2016-1100-65-70
designator D?
LED XNOVA COOL WHITE 6500K 0806; Manufacturer: Luminus Devices Inc.; Value: Green; Colour: White, Cool; Voltage Forward: 3V; Current (Test): 60mA; Viewing Angle: 110; Part Number: MP-2016-1100-65-70; PartId: 10869; Supplier 1: Digi-Key; Supplier Part Number 1: 1214-1298-2-ND; ComponentLink1Description: Datasheet; ComponentLink1URL: http://www.luminus.com/products/PDS-002326%20Mid%20Power%202016%20Rev6.pdf; ComponentLink2Description: Digi-Key Listing; ComponentLink2URL: https://www.digikey.com/product-detail/en/luminus-devices-inc/MP-2016-1100-65-70/1214-1298-2-ND/5041556; Price: 0.042; Device Package: 0806 (2016 Metric)
footprint LUMINUS MP-2016
pins: 1, 2

## MP-2016-2100-22-80
designator D?
MIDPOWER LEDS; Manufacturer: Luminus Devices Inc.; Value: Green; Colour: White, Warm; Voltage Forward: 6.1V; Current (Test): 60mA; Viewing Angle: 110; Part Number: MP-2016-2100-22-80; PartId: 10850; Supplier 1: Digi-Key; Supplier Part Number 1: 1214-1371-2-ND; ComponentLink1Description: Datasheet; ComponentLink2Description: Digi-Key Listing; ComponentLink2URL: https://www.digikey.com/product-detail/en/luminus-devices-inc/MP-2016-2100-22-80/1214-1371-2-ND/5865660; Price: 0.0429; Device Package: 2-SMD, No Lead
footprint LUMINUS MP-2016
pins: 1, 2

## MP-2016-2100-27-80
designator D?
MIDPOWER LEDS; Manufacturer: Luminus Devices Inc.; Value: Green; Colour: White, Warm; Voltage Forward: 6.1V; Current (Test): 60mA; Viewing Angle: 110; Part Number: MP-2016-2100-27-80; PartId: 10853; Supplier 1: Digi-Key; Supplier Part Number 1: 1214-1374-2-ND; ComponentLink1Description: Datasheet; ComponentLink2Description: Digi-Key Listing; ComponentLink2URL: https://www.digikey.com/product-detail/en/luminus-devices-inc/MP-2016-2100-27-80/1214-1374-2-ND/5865663; Price: 0.0429; Device Package: 2-SMD, No Lead
footprint LUMINUS MP-2016
pins: 1, 2

## MP-2016-2100-27-90
designator D?
MIDPOWER LEDS; Manufacturer: Luminus Devices Inc.; Value: Green; Colour: White, Warm; Voltage Forward: 6.1V; Current (Test): 60mA; Viewing Angle: 110; Part Number: MP-2016-2100-27-90; PartId: 10858; Supplier 1: Digi-Key; Supplier Part Number 1: 1214-1379-2-ND; ComponentLink1Description: Datasheet; ComponentLink2Description: Digi-Key Listing; ComponentLink2URL: https://www.digikey.com/product-detail/en/luminus-devices-inc/MP-2016-2100-27-90/1214-1379-2-ND/5865668; Price: 0.0457; Device Package: 2-SMD, No Lead
footprint LUMINUS MP-2016
pins: 1, 2

## MP-2016-2100-30-80
designator D?
MIDPOWER LEDS; Manufacturer: Luminus Devices Inc.; Value: Green; Colour: White, Warm; Voltage Forward: 6.1V; Current (Test): 60mA; Viewing Angle: 110; Part Number: MP-2016-2100-30-80; PartId: 10854; Supplier 1: Digi-Key; Supplier Part Number 1: 1214-1375-2-ND; ComponentLink1Description: Datasheet; ComponentLink2Description: Digi-Key Listing; ComponentLink2URL: https://www.digikey.com/product-detail/en/luminus-devices-inc/MP-2016-2100-30-80/1214-1375-2-ND/5865664; Price: 0.0429; Device Package: 2-SMD, No Lead
footprint LUMINUS MP-2016
pins: 1, 2

## MP-2016-2100-30-90
designator D?
MIDPOWER LEDS; Manufacturer: Luminus Devices Inc.; Value: Green; Colour: White, Warm; Voltage Forward: 6.1V; Current (Test): 60mA; Viewing Angle: 110; Part Number: MP-2016-2100-30-90; PartId: 10859; Supplier 1: Digi-Key; Supplier Part Number 1: 1214-1380-2-ND; ComponentLink1Description: Datasheet; ComponentLink2Description: Digi-Key Listing; ComponentLink2URL: https://www.digikey.com/product-detail/en/luminus-devices-inc/MP-2016-2100-30-90/1214-1380-2-ND/5865669; Price: 0.0457; Device Package: 2-SMD, No Lead
footprint LUMINUS MP-2016
pins: 1, 2

## MP-2016-2100-35-80
designator D?
MIDPOWER LEDS; Manufacturer: Luminus Devices Inc.; Value: Green; Colour: White, Warm; Voltage Forward: 6.1V; Current (Test): 60mA; Viewing Angle: 110; Part Number: MP-2016-2100-35-80; PartId: 10855; Supplier 1: Digi-Key; Supplier Part Number 1: 1214-1376-2-ND; ComponentLink1Description: Datasheet; ComponentLink2Description: Digi-Key Listing; ComponentLink2URL: https://www.digikey.com/product-detail/en/luminus-devices-inc/MP-2016-2100-35-80/1214-1376-2-ND/5865665; Price: 0.0429; Device Package: 2-SMD, No Lead
footprint LUMINUS MP-2016
pins: 1, 2

## MP-2016-2100-35-90
designator D?
MIDPOWER LEDS; Manufacturer: Luminus Devices Inc.; Value: Green; Colour: White, Warm; Voltage Forward: 6.1V; Current (Test): 60mA; Viewing Angle: 110; Part Number: MP-2016-2100-35-90; PartId: 10860; Supplier 1: Digi-Key; Supplier Part Number 1: 1214-1381-2-ND; ComponentLink1Description: Datasheet; ComponentLink2Description: Digi-Key Listing; ComponentLink2URL: https://www.digikey.com/product-detail/en/luminus-devices-inc/MP-2016-2100-35-90/1214-1381-2-ND/5865670; Price: 0.0457; Device Package: 2-SMD, No Lead
footprint LUMINUS MP-2016
pins: 1, 2

## MP-2016-2100-40-70
designator D?
MIDPOWER LEDS; Manufacturer: Luminus Devices Inc.; Value: Green; Colour: White, Neutral; Voltage Forward: 6.1V; Current (Test): 60mA; Viewing Angle: 110; Part Number: MP-2016-2100-40-70; PartId: 10851; Supplier 1: Digi-Key; Supplier Part Number 1: 1214-1372-2-ND; ComponentLink1Description: Datasheet; ComponentLink2Description: Digi-Key Listing; ComponentLink2URL: https://www.digikey.com/product-detail/en/luminus-devices-inc/MP-2016-2100-40-70/1214-1372-2-ND/5865661; Price: 0.0429; Device Package: 2-SMD, No Lead
footprint LUMINUS MP-2016
pins: 1, 2

## MP-2016-2100-40-80
designator D?
MIDPOWER LEDS; Manufacturer: Luminus Devices Inc.; Value: Green; Colour: White, Neutral; Voltage Forward: 6.1V; Current (Test): 60mA; Viewing Angle: 110; Part Number: MP-2016-2100-40-80; PartId: 10856; Supplier 1: Digi-Key; Supplier Part Number 1: 1214-1377-2-ND; ComponentLink1Description: Datasheet; ComponentLink2Description: Digi-Key Listing; ComponentLink2URL: https://www.digikey.com/product-detail/en/luminus-devices-inc/MP-2016-2100-40-80/1214-1377-2-ND/5865666; Price: 0.0429; Device Package: 2-SMD, No Lead
footprint LUMINUS MP-2016
pins: 1, 2

## MP-2016-2100-40-90
designator D?
MIDPOWER LEDS; Manufacturer: Luminus Devices Inc.; Value: Green; Colour: White, Neutral; Voltage Forward: 6.1V; Current (Test): 60mA; Viewing Angle: 110; Part Number: MP-2016-2100-40-90; PartId: 10861; Supplier 1: Digi-Key; Supplier Part Number 1: 1214-1382-2-ND; ComponentLink1Description: Datasheet; ComponentLink2Description: Digi-Key Listing; ComponentLink2URL: https://www.digikey.com/product-detail/en/luminus-devices-inc/MP-2016-2100-40-90/1214-1382-2-ND/5865671; Price: 0.0457; Device Package: 2-SMD, No Lead
footprint LUMINUS MP-2016
pins: 1, 2

## MP-2016-2100-50-70
designator D?
MIDPOWER LEDS; Manufacturer: Luminus Devices Inc.; Value: Green; Colour: White, Cool; Voltage Forward: 6.1V; Current (Test): 60mA; Viewing Angle: 110; Part Number: MP-2016-2100-50-70; PartId: 10852; Supplier 1: Digi-Key; Supplier Part Number 1: 1214-1373-2-ND; ComponentLink1Description: Datasheet; ComponentLink2Description: Digi-Key Listing; ComponentLink2URL: https://www.digikey.com/product-detail/en/luminus-devices-inc/MP-2016-2100-50-70/1214-1373-2-ND/5865662; Price: 0.0429; Device Package: 2-SMD, No Lead
footprint LUMINUS MP-2016
pins: 1, 2

## MP-2016-2100-50-80
designator D?
MIDPOWER LEDS; Manufacturer: Luminus Devices Inc.; Value: Green; Colour: White, Cool; Voltage Forward: 6.1V; Current (Test): 60mA; Viewing Angle: 110; Part Number: MP-2016-2100-50-80; PartId: 10857; Supplier 1: Digi-Key; Supplier Part Number 1: 1214-1378-2-ND; ComponentLink1Description: Datasheet; ComponentLink2Description: Digi-Key Listing; ComponentLink2URL: https://www.digikey.com/product-detail/en/luminus-devices-inc/MP-2016-2100-50-80/1214-1378-2-ND/5865667; Price: 0.0429; Device Package: 2-SMD, No Lead
footprint LUMINUS MP-2016
pins: 1, 2

## PG1101W-TR
designator D?, comment Green
LED GREEN CLEAR 1206 SMD; Part Number: PG1101W-TR; Manufacturer: Stanley Electric Co; Type: Surface Mount; Millicandela: 4.8mcd; Voltage Forward: 2.1V; Current (Test): 20mA; Viewing Angle: 144, 137; Value: Green; PartId: 7088; Supplier 1: Digi-Key; Supplier Part Number 1: 404-1046-2-ND; ComponentLink1Description: Datasheet; ComponentLink1URL: http://media.digikey.com/pdf/Data%20Sheets/Stanley%20Electric%20PDFs/1101W_Series.pdf; ComponentLink2Description: Digi-Key Listing; ComponentLink2URL: http://www.digikey.ca/product-detail/en/PG1101W-TR/404-1046-2-ND/428688; Price: 0.1358; Device Package: 1206 (3016 Metric); Colour: Green; Lens Transparency: Clear
footprint LED 1206/3216 GREEN
pins: 1, 2

## QBLP650-IW
designator D?, comment White
LED WHITE CLEAR 1206 SMD; Part Number: QBLP650-IW; Manufacturer: QT Brightek (QTB); Value: Green; Type: Surface Mount; Millicandela: 250mcd; Voltage Forward: 3.3V; Current (Test): 20mA; PartId: 7101; Supplier 1: Digi-Key; Supplier Part Number 1: 1516-1164-2-ND; ComponentLink1Description: Datasheet; ComponentLink1URL: http://www.qt-brightek.com/datasheet/QBLP650_series.pdf; ComponentLink2Description: Digi-Key Listing; ComponentLink2URL: http://www.digikey.ca/product-detail/en/QBLP650-IW/1516-1164-2-ND/5017758; Price: 0.142; Device Package: 1206 (3216 Metric); Colour: White; Lens Transparency: Clear; Viewing Angle: -
footprint LED 1206/3216
pins: 1, 2

## QBLP651-O
designator D?, comment Orange
LED ORANGE CLEAR 1206 SMD; Part Number: QBLP651-O; Manufacturer: QT Brightek (QTB); Value: Green; Type: Surface Mount; Millicandela: 450mcd; Voltage Forward: 2V; Current (Test): 20mA; Viewing Angle: 40; PartId: 7087; Supplier 1: Digi-Key; Supplier Part Number 1: 1516-1171-2-ND; ComponentLink1Description: Datasheet; ComponentLink1URL: http://www.qt-brightek.com/datasheet/QBLP651_series.pdf; ComponentLink2Description: Digi-Key Listing; ComponentLink2URL: http://www.digikey.ca/product-detail/en/QBLP651-O/1516-1171-2-ND/5017765; Price: 0.1265; Device Package: 1206 (3016 Metric); Colour: Orange; Lens Transparency: Clear
footprint LED 1206/3216 YELLOW
pins: 1, 2

## QTLP650D3TR
designator D?, comment Yellow
LED YELLOW DIFFUSED 1206 SMD; Part Number: QTLP650D3TR; Manufacturer: Everlight Electronics Co Ltd; Value: Green; Type: Surface Mount; Millicandela: 8mcd; Voltage Forward: 2V; Current (Test): 20mA; Viewing Angle: 140; PartId: 7093; Supplier 1: Digi-Key; Supplier Part Number 1: 1080-1418-2-ND; ComponentLink1Description: Datasheet; ComponentLink1URL: http://media.digikey.com/pdf/Data%20Sheets/Everlight%20PDFs/QTLP650(C,D)-2,3,4,7,B.pdf; ComponentLink2Description: Digi-Key Listing; ComponentLink2URL: http://www.digikey.ca/product-detail/en/QTLP650D3TR/1080-1418-2-ND/2675909; Price: 0.1032; Device Package: 1206 (3216 Metric); Colour: Yellow; Lens Transparency: Diffused
footprint LED 1206/3216 YELLOW
pins: 1, 2

## SLV6A-FKB-CK1P1G1BB7R3R3
designator D?
LED RGB 622NM 530NM 470NM 6SMD; Manufacturer: Cree Inc.; Colour: Red, Green, Blue (RGB); Millicandela: 840mcd Red, 1680mcd Green, 420mcd Blue; Voltage Forward: 2V Red, 3.2V Green, 3.2V Blue; Current (Test): 20mA Red, 20mA Green, 20mA Blue; Part Number: SLV6A-FKB-CK1P1G1BB7R3R3; PartId: 29699; Supplier 1: Digi-Key; Supplier Part Number 1: SLV6A-FKB-CK1P1G1BB7R3R3TR-ND; ComponentLink1Description: Datasheet; ComponentLink1URL: http://www.cree.com/led-components/media/documents/1320-SLV6A-FKB.pdf; ComponentLink2Description: Digi-Key Listing; ComponentLink2URL: https://www.digikey.com/product-detail/en/cree-inc/SLV6A-FKB-CK1P1G1BB7R3R3/SLV6A-FKB-CK1P1G1BB7R3R3TR-ND/5638271?; Price: 0.323; Device Package: 6-SMD, J-Lead; Lens Transparency: -; Viewing Angle: -
footprint LED PLCC6-CREE 5.5x5.3MM
pins: 1 C1, 2 C2, 3 C3, 4 A3, 5 A2, 6 A1

## SM1206NHC-IL
designator D?, comment Red
LED RED CLEAR 1206 SMD; Part Number: SM1206NHC-IL; Manufacturer: Bivar Inc.; Value: Green; Type: Surface Mount; Millicandela: 1250mcd; Voltage Forward: 2.1V; Current (Test): 20mA; Viewing Angle: 30; PartId: 7105; Supplier 1: Digi-Key; Supplier Part Number 1: 492-1944-2-ND; ComponentLink1Description: Datasheet; ComponentLink1URL: http://www.bivar.com/Portals/0/Products/SM1206NHC-IL.pdf; ComponentLink2Description: Digi-Key Listing; ComponentLink2URL: http://www.digikey.ca/product-detail/en/SM1206NHC-IL/492-1944-2-ND/5030132; Price: 0.1915; Device Package: 1206 (3216 Metric); Colour: Red; Lens Transparency: Clear
footprint LED 1206/3216 RED
pins: 1, 2

## SM1206NUWC-IL
designator D?, comment White
LED WHITE DIFFUSED 1206 SMD; Part Number: SM1206NUWC-IL; Manufacturer: Bivar Inc.; Value: Green; Type: Surface Mount; Millicandela: 750mcd; Voltage Forward: 3.1V; Current (Test): 20mA; Viewing Angle: 30; PartId: 7111; Supplier 1: Digi-Key; Supplier Part Number 1: 492-1946-2-ND; ComponentLink1Description: Datasheet; ComponentLink1URL: http://www.bivar.com/Portals/0/Products/SM1206NUWC-IL.pdf; ComponentLink2Description: Digi-Key Listing; ComponentLink2URL: http://www.digikey.ca/product-detail/en/SM1206NUWC-IL/492-1946-2-ND/5030134; Price: 0.4698; Device Package: 1206 (3216 Metric); Colour: White; Lens Transparency: Diffused
footprint LED 1206/3216
pins: 1, 2

## SML-D12M8WT86
designator D?, comment Green
LED GREEN DIFFUSED 0603 SMD; Part Number: SML-D12M8WT86; Manufacturer: Rohm Semiconductor; Type: Surface Mount; Millicandela: 25mcd; Voltage Forward: 2.2V; Current (Test): 20mA; Value: Green; PartId: 7062; Supplier 1: Digi-Key; Supplier Part Number 1: 511-1578-2-ND; ComponentLink1Description: Datasheet; ComponentLink1URL: http://rohmfs.rohm.com/en/products/databook/datasheet/opto/led/chip_mono/sml-d1.pdf; ComponentLink2Description: Digi-Key Listing; ComponentLink2URL: http://www.digikey.ca/product-detail/en/SML-D12M8WT86/511-1578-2-ND/1641797; Price: 0.0791; Device Package: 0603 (1608 Metric); Colour: Green; Lens Transparency: Diffused; Viewing Angle: -
footprint LED 0603/1608 GREEN
pins: 1, 2

## SML-LX1206IW-TR
designator D?, comment Red
LED RED DIFFUSED 1206 SMD; Part Number: SML-LX1206IW-TR; Manufacturer: Lumex Opto/Components Inc.; Value: Green; Type: Surface Mount; Millicandela: 6mcd; Voltage Forward: 2V; Current (Test): 20mA; Viewing Angle: 160; PartId: 7100; Supplier 1: Digi-Key; Supplier Part Number 1: 67-1003-2-ND; ComponentLink1Description: Datasheet; ComponentLink1URL: http://www.lumex.com/content/files/ProductAttachment/SML-LX1206IW-TR.pdf; ComponentLink2Description: Digi-Key Listing; ComponentLink2URL: http://www.digikey.ca/product-detail/en/SML-LX1206IW-TR/67-1003-2-ND/270800; Price: 0.1118; Device Package: 1206 (3216 Metric); Colour: Red; Lens Transparency: Diffused
footprint LED 1206/3216 RED
pins: 1, 2

## SML-LXFP0603UWW-TR
designator D?, comment White
LED WHITE DIFFUSED 0603 SMD; Part Number: SML-LXFP0603UWW-TR; Manufacturer: Lumex Opto/Components Inc.; Value: Green; Type: Surface Mount; Millicandela: 158mcd; Voltage Forward: 2.95V; Current (Test): 5mA; Viewing Angle: 130; PartId: 7065; Supplier 1: Digi-Key; Supplier Part Number 1: 67-2226-2-ND; ComponentLink1Description: Datasheet; ComponentLink1URL: http://www.lumex.com/content/files/ProductAttachment/SML-LXFP0603UWW-TR.pdf; ComponentLink2Description: Digi-Key Listing; ComponentLink2URL: http://www.digikey.ca/product-detail/en/SML-LXFP0603UWW-TR/67-2226-2-ND/4496770; Price: 0.1893; Device Package: 0603 (1608 Metric); Colour: White; Lens Transparency: Diffused
footprint LED 0603/1608
pins: 1, 2

## SML-P11MTT86
designator D?, comment Green
LED GREEN CLEAR 0402 SMD; Part Number: SML-P11MTT86; Manufacturer: Rohm Semiconductor; Type: Surface Mount; Millicandela: 2.1mcd; Voltage Forward: 1.9V; Current (Test): 1mA; Value: Green; PartId: 7066; Supplier 1: Digi-Key; Supplier Part Number 1: 511-1652-2-ND; ComponentLink1Description: Datasheet; ComponentLink1URL: http://rohmfs.rohm.com/en/products/databook/datasheet/opto/led/chip_mono/sml-p11_p-eco.pdf; ComponentLink2Description: Digi-Key Listing; ComponentLink2URL: http://www.digikey.ca/product-detail/en/SML-P11MTT86/511-1652-2-ND/2036457; Price: 0.0918; Device Package: 0402 (1005 Metric); Colour: Green; Lens Transparency: Clear; Viewing Angle: -
footprint LED 0402/1005 GREEN
pins: 1, 2